# Altium footprint library 3WRes.PcbLib: 1 footprints
Each footprint in its own frame and in the unit in brackets; x right, y up, seen from the top. Pads: shape width x height; smd on the part's side, far side on the other; paste and mask are expansions set on the pad; w line width, h text height; cw(c..) or ccw(c..) is an arc to the next point about the centre after c.
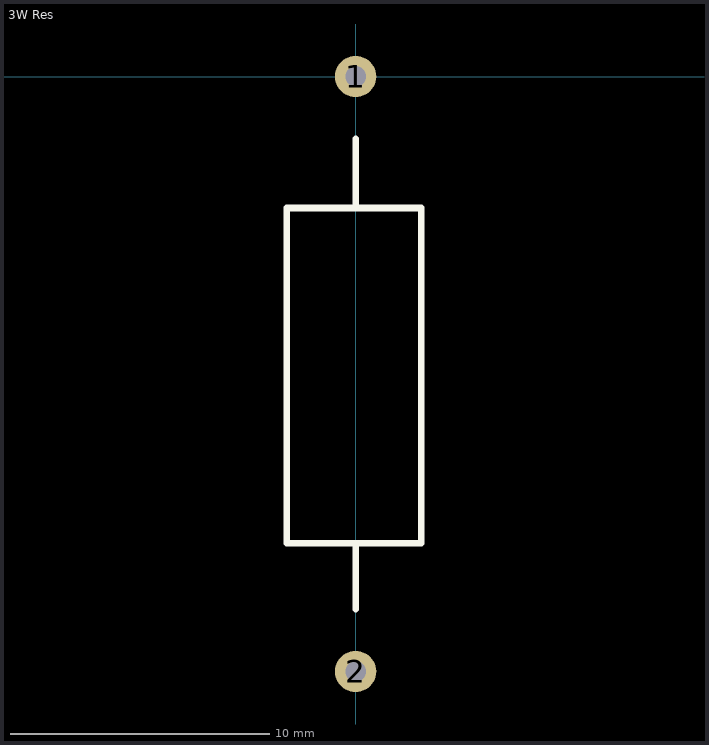
[diagram p0: the footprint, top view; thin cyan lines are the x and y axes]

## 3W Res [mm]
pads (2):
  round 1.6 hole 0.8: 1(0,0) 2(0,-22.987)
Top Overlay:
  lines w0.254: 0,-20.574 0,-18.034 ; 0,-5.08 0,-2.413 ; -2.667,-18.034 -2.667,-5.08 2.54,-5.08 2.54,-18.034 -2.667,-18.034